# EAGLE library part ADM2587EBRWZ (library graftel-internal-ic)
Single Transmitter/Receiver RS-422/RS-485 20-Pin SOIC W Tube
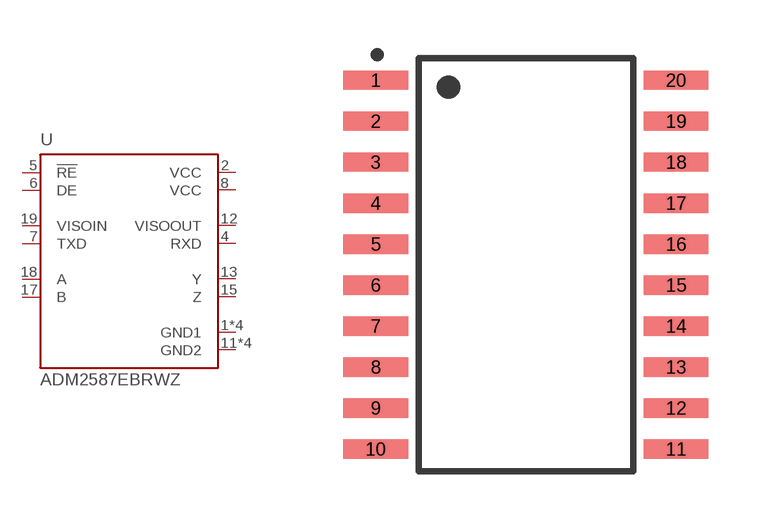
[diagram p56: symbol with the pads of SOIC127P1032X265-20N; footprint SOIC127P1032X265-20N]

Designator prefix U

## ADM2587EBRWZ (AVAILABILITY: Unavailable; DESCRIPTION: Single Transmitter/Receiver RS-422/RS-485 20-Pin SOIC W T/R; MF: Analog Devices; MP: ADM2587EBRWZ-REEL7; PACKAGE: SOIC-20 Analog Devices; PRICE: None)  [SOIC127P1032X265-20N]
1  GND1  pwr
2  VCC  pwr
3  GND1  pwr
4  RXD  out
5  !RE  in
6  DE  in
7  TXD  in
8  VCC  pas
9  GND1  pwr
10  GND1  pwr
11  GND2  pwr
12  VISOOUT  out
13  Y  out
14  GND2  pwr
15  Z  out
16  GND2  pwr
17  B  in
18  A  in
19  VISOIN  in
20  GND2  pwr

## Footprint SOIC127P1032X265-20N (pad centres in mm)
smd 2 x 0.6: 1 -4.65,5.715; 2 -4.65,4.445; 3 -4.65,3.175; 4 -4.65,1.905; 5 -4.65,0.635; 6 -4.65,-0.635; 7 -4.65,-1.905; 8 -4.65,-3.175; 9 -4.65,-4.445; 10 -4.65,-5.715; 11 4.65,-5.715; 12 4.65,-4.445; 13 4.65,-3.175; 14 4.65,-1.905; 15 4.65,-0.635; 16 4.65,0.635; 17 4.65,1.905; 18 4.65,3.175; 19 4.65,4.445; 20 4.65,5.715